# EAGLE library part PS_CONDOR-HA15-0.9-A+ (library 1A-meinLib)
Lineargeregeltes Netzteil 12V..15V / 0.9A, CONDOR, HA15-0.9-A+
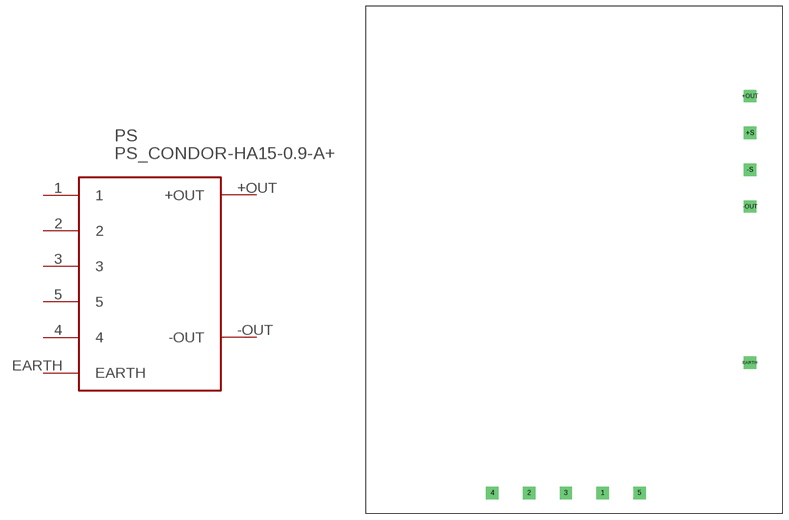
[diagram p71: symbol with the pads of PS_CONDOR-HB24-1.2A-A; footprint PS_CONDOR-HB24-1.2A-A]

Designator prefix PS

## PS_CONDOR-HA15-0.9-A+  [PS_CONDOR-HB24-1.2A-A]
1  1
2  2
3  3
4  4
5  5
+OUT  +OUT
-OUT  -OUT
EARTH  EARTH

## Footprint PS_CONDOR-HB24-1.2A-A (pad centres in mm)
drill 2 square: 1 58,5; 2 40,5; 3 49,5; 4 31,5; 5 67,5; +OUT 94,102; +S 94,93; -OUT 94,75; -S 94,84; EARTH 93.98,36.83